# Altium schematic symbol library TestClip.SchLib: 2 symbols
Pins are listed as number, name and electrical type; pins without a type are passive.

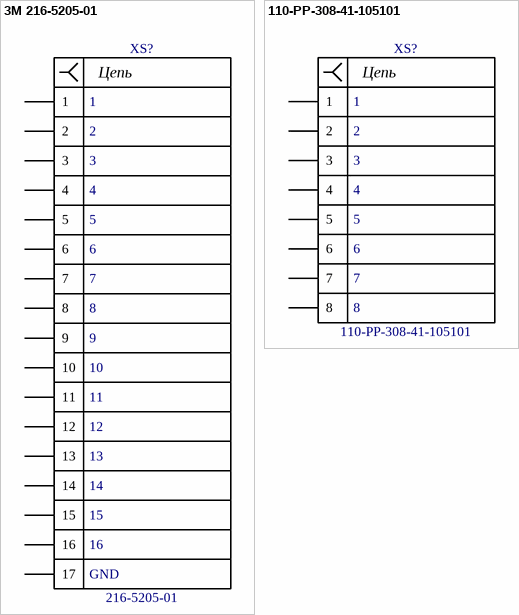
[diagram p0: symbols 3M 216-5205-01 to 110-PP-308-41-105101]

## 3M 216-5205-01
designator XS?, comment 216-5205-01  Net17: GND  Net16: 16  Net15: 15  Net14: 14  Net13: 13  Net12: 12  Net11: 11  Net10: 10  Net9: 9  Net8: 8  Net7: 7  Net6: 6  Net5: 5  Net4: 4  Net3: 3  Net2: 2  Net1: 1
3M™ Textool™ Open-Top Sockets for QFN Applications, 0.5 mm Pitch, 16 Pos, Even Row, 3x3 Pkg; Manufacturer: 3M; PartNumber: 216-5205-01; ComponentLink1Description: Product Page; ComponentLink1URL: https://www.precidip.com/pview/110-PP-308-41-105101.html
footprint 3M 216-5205-01 (3M™ Textool™ Open-Top Sockets for QFN Applications, 0.5 mm Pitch, 16 Pos, Even Row, 3x3 Pkg)
pins: 1, 2, 3, 4, 5, 6, 7, 8, 9, 10, 11, 12, 13, 14, 15, 16, 17
text: Цепь

## 110-PP-308-41-105101
designator XS?  Net8: 8  Net7: 7  Net6: 6  Net5: 5  Net4: 4  Net3: 3  Net2: 2  Net1: 1
DIP SMT SOCKET Pitch 2.54mm 8 Poles Width 7.62mm; Manufacturer: Preci-DIP; PartNumber: 110-PP-308-41-105101; ComponentLink1Description: Product Page; ComponentLink1URL: https://www.precidip.com/pview/110-PP-308-41-105101.html
footprint 110-PP-310-41-105101 (DIP SMT SOCKET Pitch 2.54mm 8 Poles Width 7.62mm)
pins: 1, 2, 3, 4, 5, 6, 7, 8
text: Цепь